# EAGLE library part SHIELD32 (library ioshub)
ATMEGA32 SHIELD
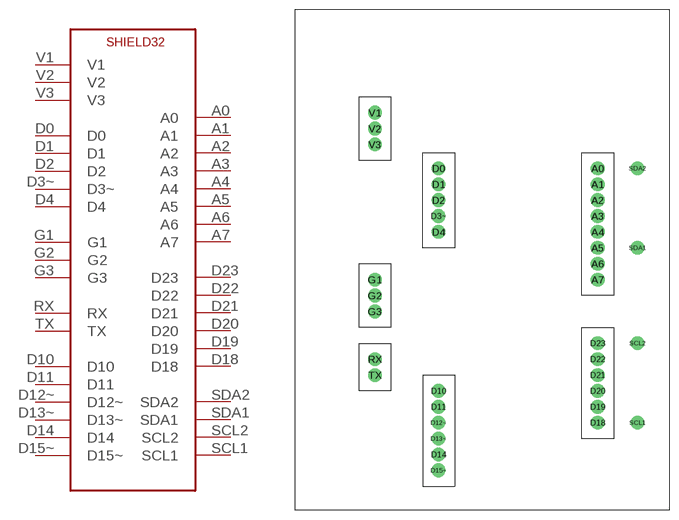
[diagram p6: symbol with the pads of SHIELD32; footprint SHIELD32]

Designator prefix -

## SHIELD32001  [SHIELD32]
A0  A0
A1  A1
A2  A2
A3  A3
A4  A4
A5  A5
A6  A6
A7  A7
D0  D0
D1  D1
D2  D2
D3~  D3~
D4  D4
D10  D10
D11  D11
D12~  D12~
D13~  D13~
D14  D14
D15~  D15~
D18  D18
D19  D19
D20  D20
D21  D21
D22  D22
D23  D23
G1  G1
G2  G2
G3  G3
RX  RX
SCL1  SCL1
SCL2  SCL2
SDA1  SDA1
SDA2  SDA2
TX  TX
V1  V1
V2  V2
V3  V3

## Footprint SHIELD32 (pad centres in mm)
ATMEGA32 SHIELD
drill 0.8 pad 2.184: A0 16.51,17.78; A1 16.51,15.24; A2 16.51,12.7; A3 16.51,10.16; A4 16.51,7.62; A5 16.51,5.08; A6 16.51,2.54; A7 16.51,0; D0 -8.89,17.78; D1 -8.89,15.24; D2 -8.89,12.7; D3~ -8.89,10.16; D4 -8.89,7.62; D10 -8.89,-17.78; D11 -8.89,-20.32; D12~ -8.89,-22.86; D13~ -8.89,-25.4; D14 -8.89,-27.94; D15~ -8.89,-30.48; D18 16.51,-22.86; D19 16.51,-20.32; D20 16.51,-17.78; D21 16.51,-15.24; D22 16.51,-12.7; D23 16.51,-10.16; G1 -19.05,0; G2 -19.05,-2.54; G3 -19.05,-5.08; RX -19.05,-12.7; SCL1 22.86,-22.86; SCL2 22.86,-10.16; SDA1 22.86,5.08; SDA2 22.86,17.78; TX -19.05,-15.24; V1 -19.05,26.67; V2 -19.05,24.13; V3 -19.05,21.59